# EAGLE library part CAP_WHEEL (library pighiXXX)
Capacitive wheel
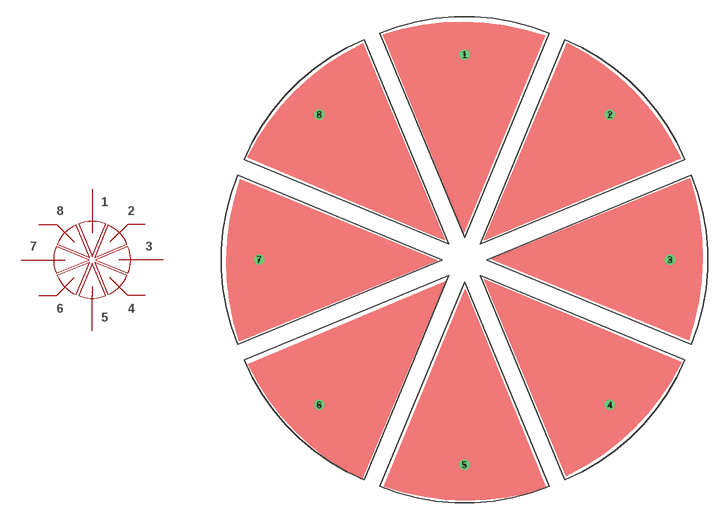
[diagram p5: symbol with the pads of CAP_WHEEL; footprint CAP_WHEEL]

Designator prefix W

## CAP_WHEEL  [CAP_WHEEL]
1  1
2  2
3  3
4  4
5  5
6  6
7  7
8  8

## Footprint CAP_WHEEL (pad centres in mm)
drill 0.406: 1 0.002,18.552; 2 13.125,13.113; 3 18.555,0.004; 4 13.121,-13.13; 5 0,-18.542; 6 -13.126,-13.122; 7 -18.55,0.01; 8 -13.124,13.124